# EAGLE library part ADS5232 (library Mine)
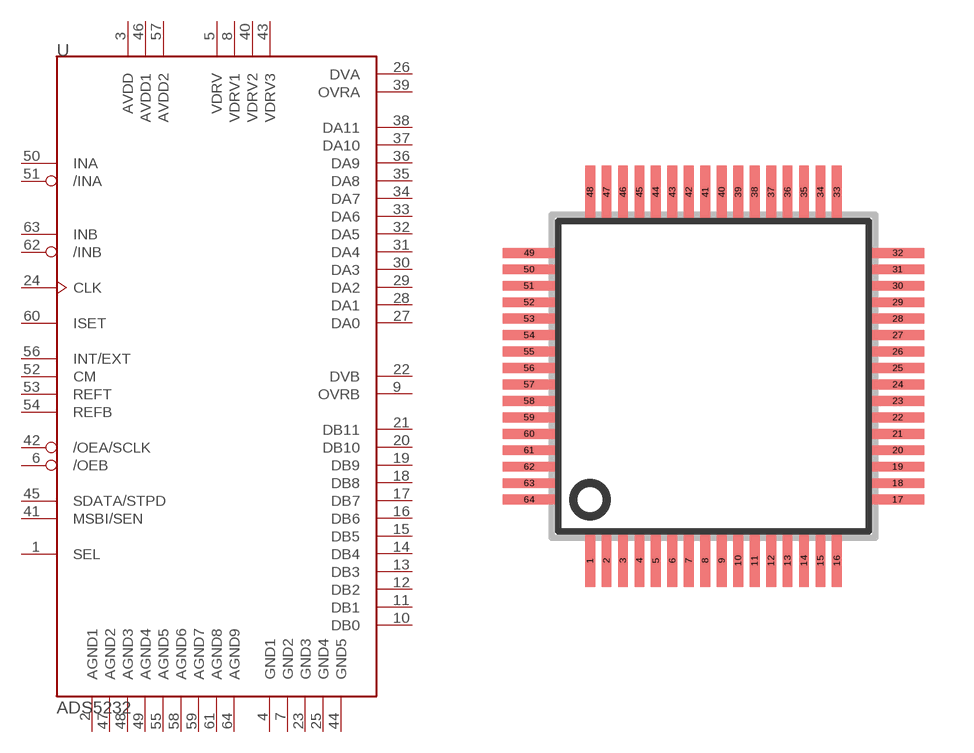
[diagram p46: symbol with the pads of SQFP-S-10X10-64; footprint SQFP-S-10X10-64]

Designator prefix -

## ADS5232  [SQFP-S-10X10-64]
1  SEL  in
2  AGND1  pwr
3  AVDD  pwr
4  GND1  pwr
5  VDRV  in
6  /OEB  in
7  GND2  pwr
8  VDRV1  in
9  OVRB  out
10  DB0  out
11  DB1  out
12  DB2  out
13  DB3  out
14  DB4  out
15  DB5  out
16  DB6  out
17  DB7  out
18  DB8  out
19  DB9  out
20  DB10  out
21  DB11  out
22  DVB  out
23  GND3  pwr
24  CLK  in
25  GND4  pwr
26  DVA  out
27  DA0  out
28  DA1  out
29  DA2  out
30  DA3  out
31  DA4  out
32  DA5  out
33  DA6  out
34  DA7  out
35  DA8  out
36  DA9  out
37  DA10  out
38  DA11  out
39  OVRA  out
40  VDRV2  in
41  MSBI/SEN  in
42  /OEA/SCLK  in
43  VDRV3  in
44  GND5  pwr
45  SDATA/STPD  in
46  AVDD1  pwr
47  AGND2  pwr
48  AGND3  pwr
49  AGND4  pwr
50  INA  in
51  /INA  in
52  CM  out
53  REFT  in
54  REFB  in
55  AGND5  pwr
56  INT/EXT  in
57  AVDD2  pwr
58  AGND6  pwr
59  AGND7  pwr
60  ISET  in
61  AGND8  pwr
62  /INB  in
63  INB  in
64  AGND9  pwr

## Footprint SQFP-S-10X10-64 (pad centres in mm)
QFP64 shrink quad flat pack, square
smd 0.3 x 1.6: 1 -3.75,-5.6; 2 -3.25,-5.6; 3 -2.75,-5.6; 4 -2.25,-5.6; 5 -1.75,-5.6; 6 -1.25,-5.6; 7 -0.75,-5.6; 8 -0.25,-5.6; 9 0.25,-5.6; 10 0.75,-5.6; 11 1.25,-5.6; 12 1.75,-5.6; 13 2.25,-5.6; 14 2.75,-5.6; 15 3.25,-5.6; 16 3.75,-5.6; 33 3.75,5.6; 34 3.25,5.6; 35 2.75,5.6; 36 2.25,5.6; 37 1.75,5.6; 38 1.25,5.6; 39 0.75,5.6; 40 0.25,5.6; 41 -0.25,5.6; 42 -0.75,5.6; 43 -1.25,5.6; 44 -1.75,5.6; 45 -2.25,5.6; 46 -2.75,5.6; 47 -3.25,5.6; 48 -3.75,5.6
smd 1.6 x 0.3: 17 5.6,-3.75; 18 5.6,-3.25; 19 5.6,-2.75; 20 5.6,-2.25; 21 5.6,-1.75; 22 5.6,-1.25; 23 5.6,-0.75; 24 5.6,-0.25; 25 5.6,0.25; 26 5.6,0.75; 27 5.6,1.25; 28 5.6,1.75; 29 5.6,2.25; 30 5.6,2.75; 31 5.6,3.25; 32 5.6,3.75; 49 -5.6,3.75; 50 -5.6,3.25; 51 -5.6,2.75; 52 -5.6,2.25; 53 -5.6,1.75; 54 -5.6,1.25; 55 -5.6,0.75; 56 -5.6,0.25; 57 -5.6,-0.25; 58 -5.6,-0.75; 59 -5.6,-1.25; 60 -5.6,-1.75; 61 -5.6,-2.25; 62 -5.6,-2.75; 63 -5.6,-3.25; 64 -5.6,-3.75